# Altium schematic symbol library LT3014EDD#PBF.Schlib: 1 symbol
Pins are listed as number, name and electrical type; pins without a type are passive.

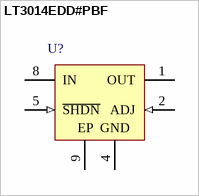
[diagram p0: symbol LT3014EDD#PBF]

## LT3014EDD#PBF
designator U?
20 mA, Low Dropout Micropower Linear Regulator, 3 to 80 V Vin, Adjustable Vout, 8-pin SON (DD-8), -40 to 125 degC, Pb-Free
pins: 1 OUT (power) "Output. The output supplies power to the load.", 2 ADJ (in) "Adjust. This is the input to the error amplifier.", 4 GND (power) "Ground.", 5 ~{SHDN} (in) "Shutdown. The output will be off when the S\H\D\N\ pin is pulled low. The S\H\D\N\ pin can be driven either by 5V logic or open-collector logic with a pull-up resistor.", 8 IN (power) "Input. Power is supplied to the device through the IN pin. A bypass capacitor is required on this pin if the device is more than six inches away from the main input filter capacitor. In general, the output impedance of a (See Datasheet)", 9 EP (power) "Ground."